# Altium schematic symbol library TFTLCD_CONN.A1.SchLib: 1 symbol
Pins are listed as number, name and electrical type; pins without a type are passive.

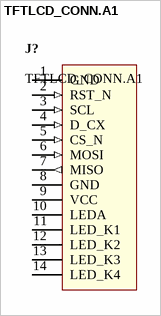
[diagram p0: symbol TFTLCD_CONN.A1]

## TFTLCD_CONN.A1
designator J?
TFT connector , 14 pins
pins: 1 GND, 2 RST_N (in), 3 SCL (in), 4 D_CX (in), 5 CS_N (in), 6 MOSI (in), 7 MISO (out), 8 GND, 9 VCC, 10 LEDA, 11 LED_K1, 12 LED_K2, 13 LED_K3, 14 LED_K4